# Altium schematic symbol library connectors.SchLib: 36 symbols
Pins are listed as number, name and electrical type; pins without a type are passive.

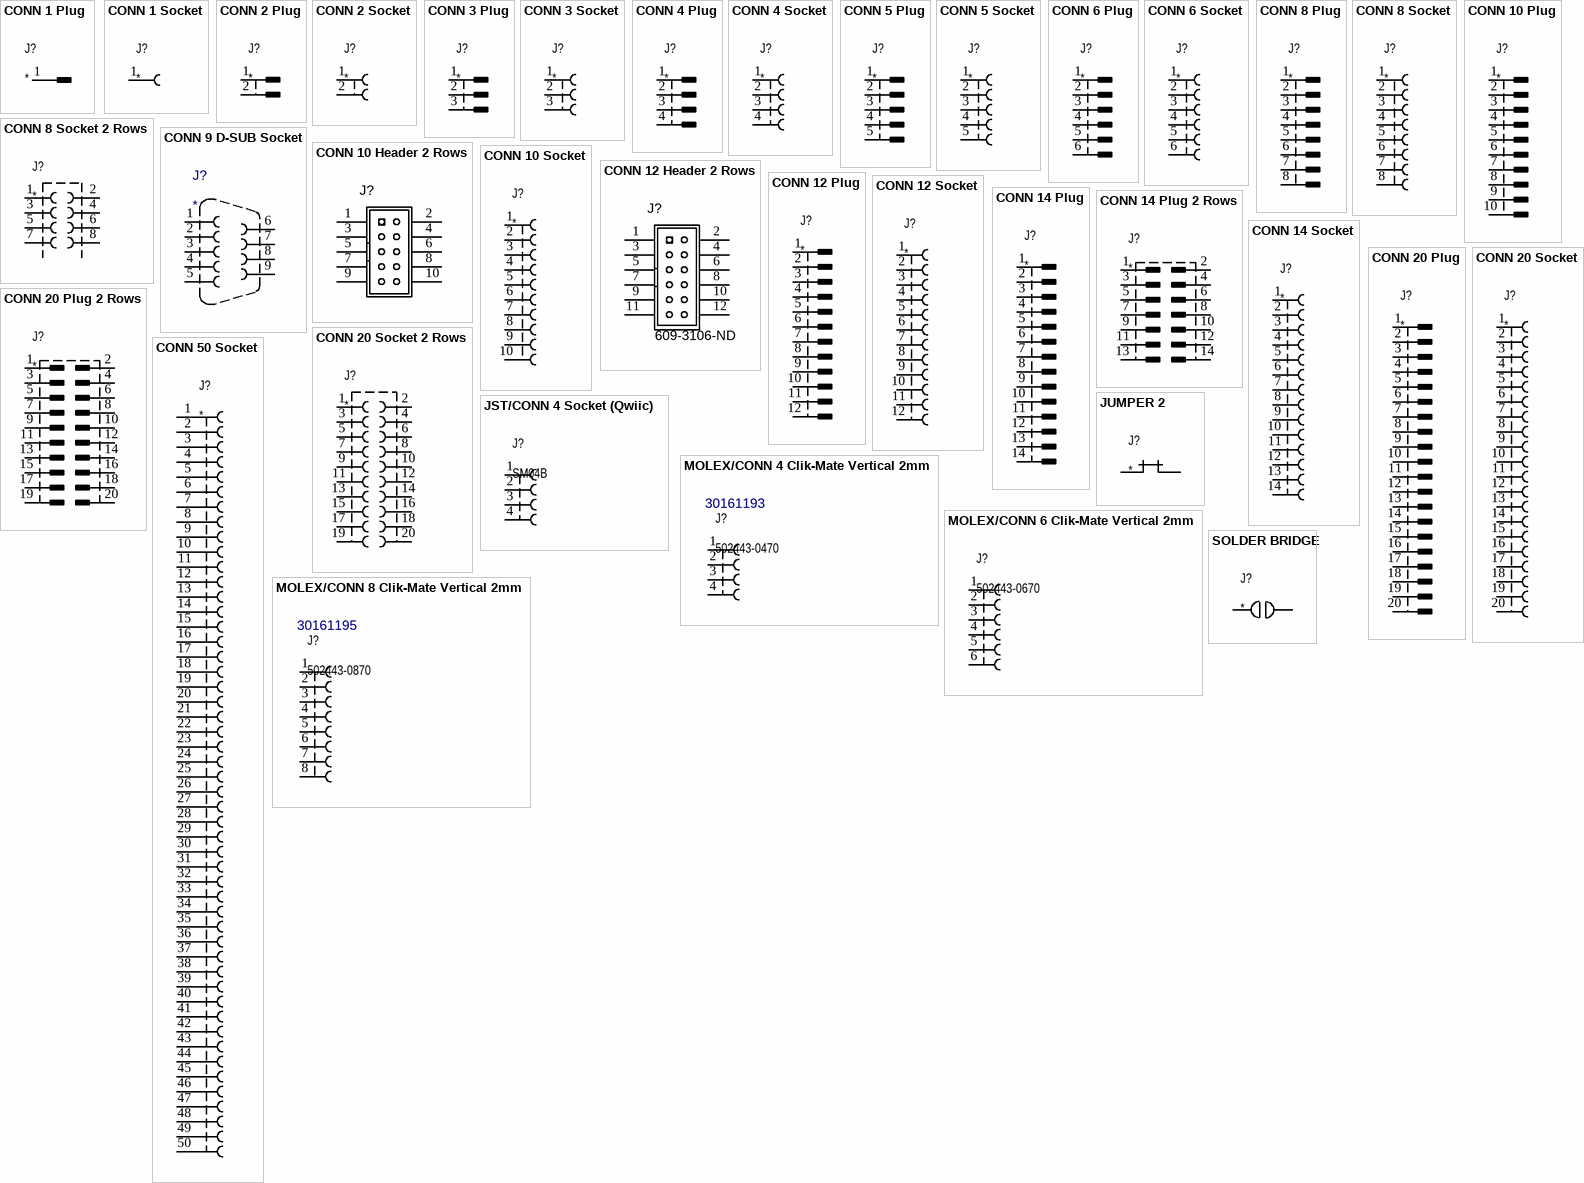
[diagram p0: symbols CONN 1 Plug to SOLDER BRIDGE]

## CONN 1 Plug
designator J?
pins: 1

## CONN 1 Socket
designator J?
pins: 1

## CONN 2 Plug
designator J?
pins: 1, 2

## CONN 2 Socket
designator J?
pins: 1, 2

## CONN 3 Plug
designator J?
pins: 1, 2, 3

## CONN 3 Socket
designator J?
pins: 1, 2, 3

## CONN 4 Plug
designator J?
pins: 1, 2, 3, 4

## CONN 4 Socket
designator J?
pins: 1, 2, 3, 4

## CONN 5 Plug
designator J?
pins: 1, 2, 3, 4, 5

## CONN 5 Socket
designator J?
pins: 1, 2, 3, 4, 5

## CONN 6 Plug
designator J?
pins: 1, 2, 3, 4, 5, 6

## CONN 6 Socket
designator J?
pins: 1, 2, 3, 4, 5, 6

## CONN 8 Plug
designator J?
pins: 1, 2, 3, 4, 5, 6, 7, 8

## CONN 8 Socket
designator J?
pins: 1, 2, 3, 4, 5, 6, 7, 8

## CONN 8 Socket 2 Rows
designator J?
pins: 1, 2, 3, 4, 5, 6, 7, 8

## CONN 9 D-SUB Socket
designator J?
pins: 1, 2, 3, 4, 5, 6, 7, 8, 9

## CONN 10 Header 2 Rows
designator J?
footprint HE/2.54/10/1
pins: 1, 2, 3, 4, 5, 6, 7, 8, 9, 10

## CONN 10 Plug
designator J?
pins: 1, 2, 3, 4, 5, 6, 7, 8, 9, 10

## CONN 10 Socket
designator J?
pins: 1, 2, 3, 4, 5, 6, 7, 8, 9, 10

## CONN 12 Header 2 Rows
designator J?  Supplier Part Number 1: 609-3106-ND
Supplier 1: Digi-Key
pins: 1, 2, 3, 4, 5, 6, 7, 8, 9, 10, 11, 12

## CONN 12 Plug
designator J?
pins: 1, 2, 3, 4, 5, 6, 7, 8, 9, 10, 11, 12

## CONN 12 Socket
designator J?
pins: 1, 2, 3, 4, 5, 6, 7, 8, 9, 10, 11, 12

## CONN 14 Plug
designator J?
pins: 1, 2, 3, 4, 5, 6, 7, 8, 9, 10, 11, 12, 13, 14

## CONN 14 Plug 2 Rows
designator J?
pins: 1, 2, 3, 4, 5, 6, 7, 8, 9, 10, 11, 12, 13, 14

## CONN 14 Socket
designator J?
pins: 1, 2, 3, 4, 5, 6, 7, 8, 9, 10, 11, 12, 13, 14

## CONN 20 Plug
designator J?
pins: 1, 2, 3, 4, 5, 6, 7, 8, 9, 10, 11, 12, 13, 14, 15, 16, 17, 18, 19, 20

## CONN 20 Plug 2 Rows
designator J?
pins: 1, 2, 3, 4, 5, 6, 7, 8, 9, 10, 11, 12, 13, 14, 15, 16, 17, 18, 19, 20

## CONN 20 Socket
designator J?
pins: 1, 2, 3, 4, 5, 6, 7, 8, 9, 10, 11, 12, 13, 14, 15, 16, 17, 18, 19, 20

## CONN 20 Socket 2 Rows
designator J?
pins: 1, 2, 3, 4, 5, 6, 7, 8, 9, 10, 11, 12, 13, 14, 15, 16, 17, 18, 19, 20

## CONN 50 Socket
designator J?
pins: 1, 2, 3, 4, 5, 6, 7, 8, 9, 10, 11, 12, 13, 14, 15, 16, 17, 18, 19, 20, 21, 22, 23, 24, 25, 26, 27, 28, 29, 30, 31, 32, 33, 34, 35, 36, 37, 38, 39, 40, 41, 42, 43, 44, 45, 46, 47, 48, 49, 50

## JST/CONN 4 Socket (Qwiic)
designator J?, comment SM04B
JST Qwiic Connector; Supplier 1: Digi-Key; Supplier Part Number 1: 455-2645-6-ND; Function: *
footprint QWIIC-SM04B-SRSS-TB
pins: 1, 2, 3, 4

## JUMPER 2
designator J?
pins: 1, 2

## MOLEX/CONN 4 Clik-Mate Vertical 2mm
designator J?, comment 502443-0470  Supplier Part Number 1: 30161193
CLIK-Mate Vertical Receptacle, PCB Receptacle, Surface Mount, 1 Rows, 4 Contacts, 2mm Pitch, Molex; Supplier 1: Distrelec
footprint MOLEX/5024430470/CLIK-MATE/2mm
pins: 1, 2, 3, 4

## MOLEX/CONN 6 Clik-Mate Vertical 2mm
designator J?, comment 502443-0670
CLIK-Mate Vertical Receptacle, PCB Receptacle, Surface Mount, 1 Rows, 6 Contacts, 2mm Pitch, Molex; Supplier 1: Distrelec; Function: *; Supplier Part Number 1: 30161194
footprint MOLEX/5024430670/CLIK-MATE/2mm
pins: 1, 2, 3, 4, 5, 6

## MOLEX/CONN 8 Clik-Mate Vertical 2mm
designator J?, comment 502443-0870  Supplier Part Number 1: 30161195
CLIK-Mate Vertical Receptacle, PCB Receptacle, Surface Mount, 1 Rows, 8 Contacts, 2mm Pitch, Molex; Supplier 1: Distrelec
footprint MOLEX/5024430870/CLIK-MATE/2mm
pins: 1, 2, 3, 4, 5, 6, 7, 8

## SOLDER BRIDGE
designator J?
pins: 1, 2